# Altium integrated library MT3608.IntLib: 1 symbol
Pins are listed as number, name and electrical type; pins without a type are passive.

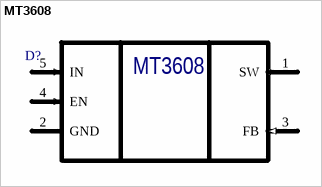
[diagram p0: symbol MT3608]

## MT3608
designator D?  (value not drawn)
Manufacturer: AEROSEMI; Type: микросхема; ManufacturerPartNumber: MT3608; Name: *; Package: SOT23-6
footprint SOT23-6 (6-Lead Small Outline Transistor Package)
pins: 1 SW (out), 2 GND (power), 3 FB (in), 4 EN (in), 5 IN (in), 6 NC (out) hidden